# EAGLE library part 8PINJUKE2 (library Jukebox)
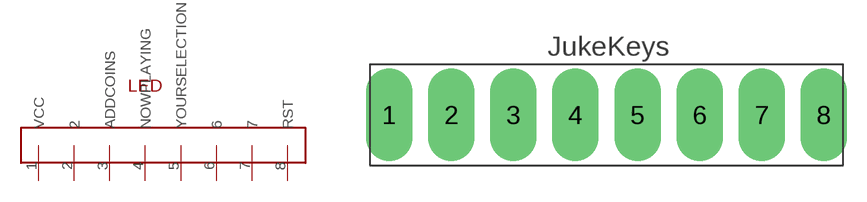
[diagram p4: symbol with the pads of 8PINJUKE; footprint 8PINJUKE]

Designator prefix -

## 8PINJUKE2  [8PINJUKE]
1  VCC
2  2
3  ADDCOINS
4  NOWPLAYING
5  YOURSELECTION
6  6
7  7
8  RST

## Footprint 8PINJUKE (pad centres in mm)
drill 1 pad 3 long: 1 -14,0; 2 -10,0; 3 -6,0; 4 -2,0; 5 2,0; 6 6,0; 7 10,0; 8 14,0